# EAGLE library part APA102 (library FaBo-LED)
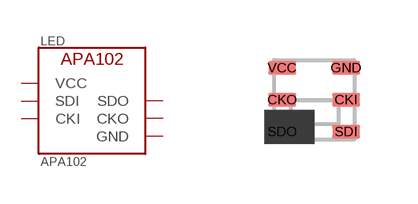
[diagram p6: symbol with the pads of APA102_2020; footprint APA102_2020]

Designator prefix LED

## APA102_IPIXEL  [APA102_2020]
CKI  CKI
CKO  CKO
GND  GND
SDI  SDI
SDO  SDO
VCC  VCC

## Footprint APA102_2020 (pad centres in mm)
smd 0.7 x 0.35: CKI 0.8,0; CKO -0.8,0; GND 0.8,0.8; SDI 0.8,-0.8; SDO -0.8,-0.8; VCC -0.8,0.8